# Altium integrated library Analog Devices Data Converters Digital-to-Analog Converters.IntLib: 2231 symbols (part 113 of 181)
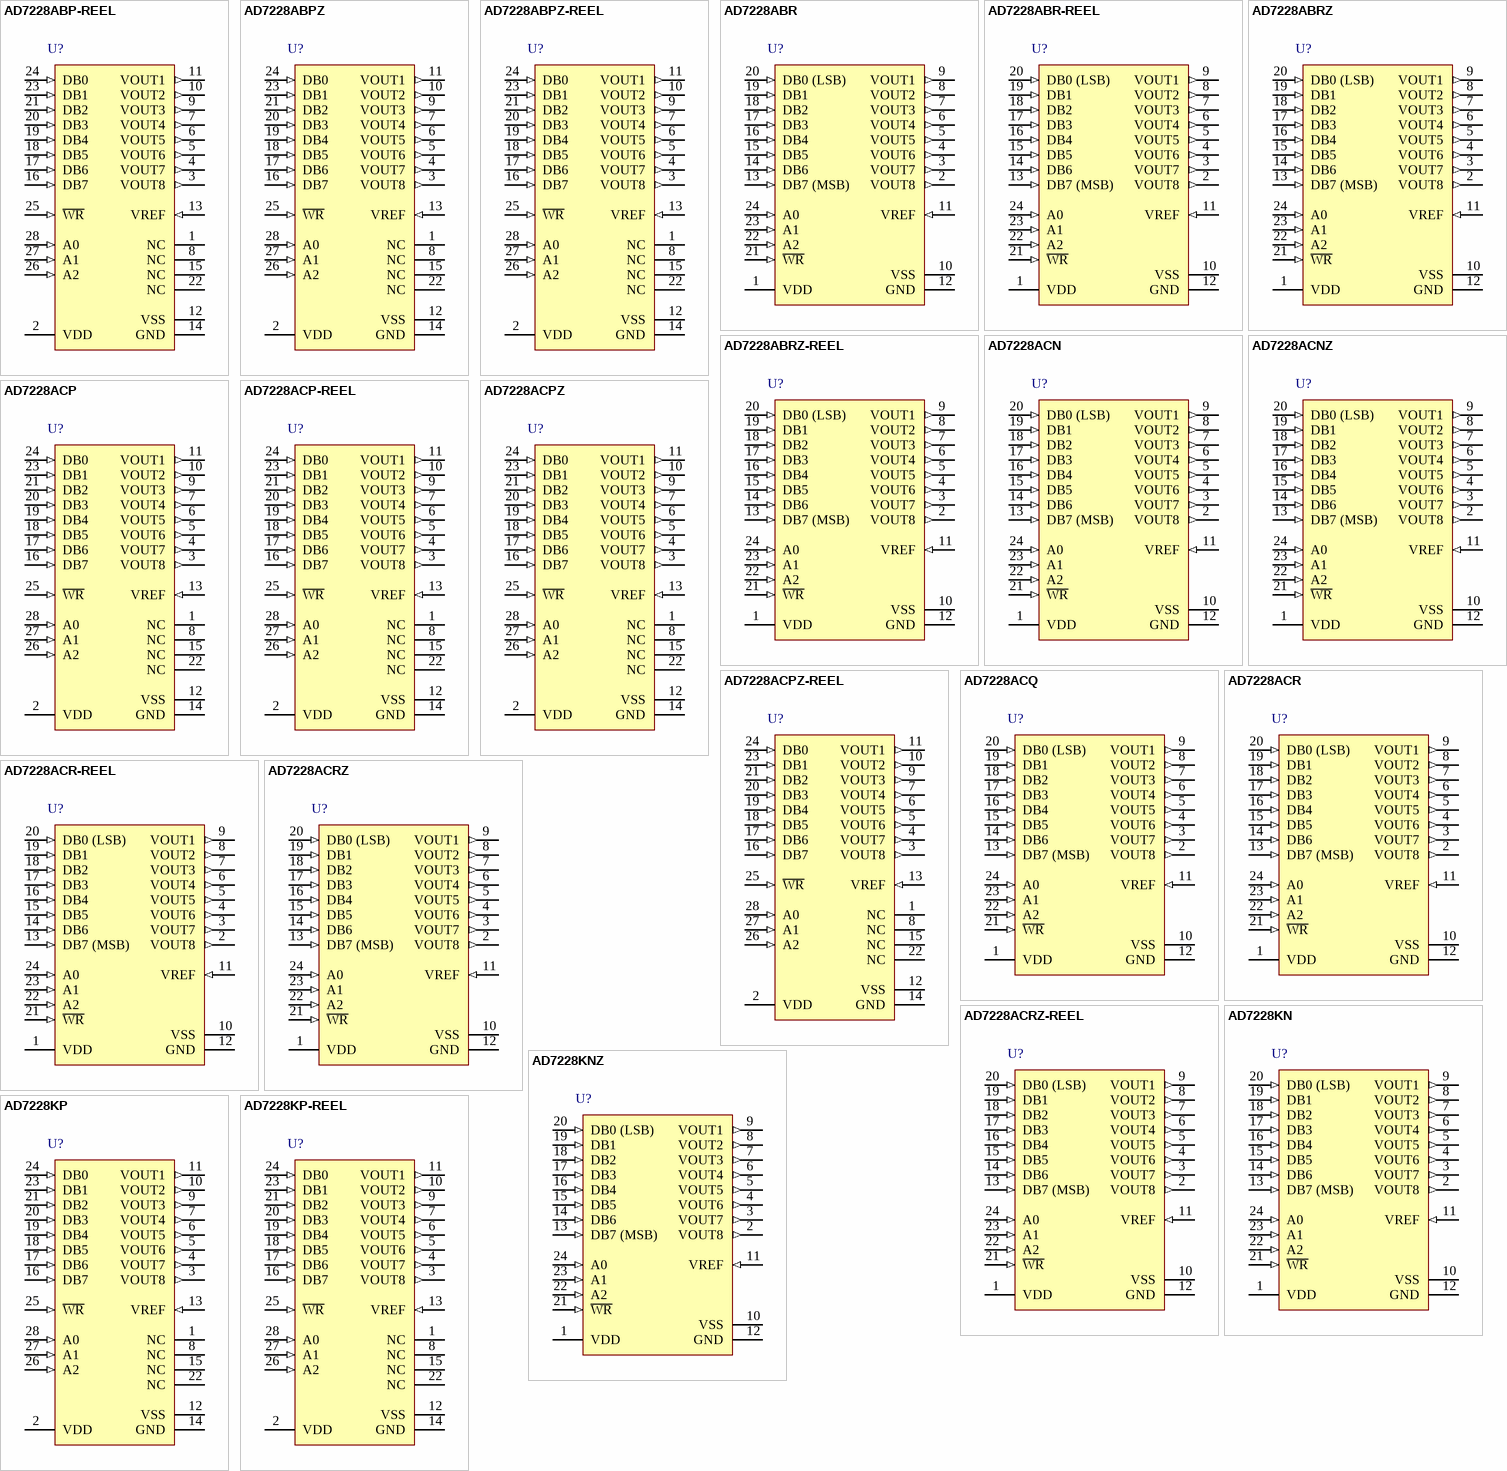
[diagram p226: symbols AD7228ABP-REEL to AD7228KP-REEL]

## AD7228ACR
designator U?
Octal 8-Bit LC2MOS Digital-to-Analog Converter, -40 to +85 degC, RW-24, Tube; Generic Part Number: AD7228; Manufacturer: Analog Devices; PartNumber: AD7228ACR; # DAC Outputs: 8; Max V+: 16.5V; Op Pwr Diss: 310mW; Settling Time: 5µs; Single Supply: Yes; DatasheetVersion: Rev.A; PackageVersion: 060706-A; PackageReference: RW-24; PackageDescription: 24-Lead Standard Small Outline Package [SOIC_W]; Supplier 1: Digi-Key; Supplier Part Number 1: AD7228ACR-ND; Supplier 2: Mouser; Supplier Part Number 2: 584-AD7228ACR; Packing: Tube; Resolution (Bits): 8; RoHS: N; Mounting Technology: Surface Mount; Code_JEDEC: MS-013-AD; ComponentLink1Description: Manufacturer URL; ComponentLink1URL: http://www.analog.com/en/index.html; ComponentLink2Description: Datasheet; ComponentLink2URL: http://www.analog.com/static/imported-files/data_sheets/AD7228.pdf; ComponentLink3Description: Package Specification; ComponentLink3URL: http://www.analog.com/static/imported-files/packages/33665150946139RW_24.pdf; ComponentLink4Description: Product URL; ComponentLink4URL: http://www.analog.com/en/digital-to-analog-converters/da-converters/ad7228/products/product.html
footprint RW-24_N (SOIC, 24-Leads, Body 15.4x7.5mm, Pitch 1.27mm, IPC Medium Density)
footprint RW-24_L (SOIC, 24-Leads, Body 15.4x7.5mm, Pitch 1.27mm, IPC High Density)
footprint RW-24_M (SOIC, 24-Leads, Body 15.4x7.5mm, Pitch 1.27mm, IPC Low Density)
pins: 1 VDD (power), 2 VOUT8 (out), 3 VOUT7 (out), 4 VOUT6 (out), 5 VOUT5 (out), 6 VOUT4 (out), 7 VOUT3 (out), 8 VOUT2 (out), 9 VOUT1 (out), 10 VSS (power), 11 VREF (in), 12 GND (power), 13 DB7 (MSB) (in), 14 DB6 (in), 15 DB5 (in), 16 DB4 (in), 17 DB3 (in), 18 DB2 (in), 19 DB1 (in), 20 DB0 (LSB) (in), 21 ~{WR} (in), 22 A2 (in), 23 A1 (in), 24 A0 (in)

## AD7228ACR-REEL
designator U?
Octal 8-Bit LC2MOS Digital-to-Analog Converter, -40 to +85 degC, RW-24, Reel; Generic Part Number: AD7228; Manufacturer: Analog Devices; PartNumber: AD7228ACR-REEL; # DAC Outputs: 8; Max V+: 16.5V; Op Pwr Diss: 310mW; Settling Time: 5µs; Single Supply: Yes; DatasheetVersion: Rev.A; PackageVersion: 060706-A; PackageReference: RW-24; PackageDescription: 24-Lead Standard Small Outline Package [SOIC_W]; Supplier 1: Digi-Key; Supplier Part Number 1: AD7228ACR-REEL-ND; Supplier 2: Mouser; Supplier Part Number 2: 584-AD7228ACR-R; Packing: Reel; Resolution (Bits): 8; RoHS: N; Mounting Technology: Surface Mount; Code_JEDEC: MS-013-AD; ComponentLink1Description: Manufacturer URL; ComponentLink1URL: http://www.analog.com/en/index.html; ComponentLink2Description: Datasheet; ComponentLink2URL: http://www.analog.com/static/imported-files/data_sheets/AD7228.pdf; ComponentLink3Description: Package Specification; ComponentLink3URL: http://www.analog.com/static/imported-files/packages/33665150946139RW_24.pdf; ComponentLink4Description: Product URL; ComponentLink4URL: http://www.analog.com/en/digital-to-analog-converters/da-converters/ad7228/products/product.html
footprint RW-24_N (SOIC, 24-Leads, Body 15.4x7.5mm, Pitch 1.27mm, IPC Medium Density)
footprint RW-24_L (SOIC, 24-Leads, Body 15.4x7.5mm, Pitch 1.27mm, IPC High Density)
footprint RW-24_M (SOIC, 24-Leads, Body 15.4x7.5mm, Pitch 1.27mm, IPC Low Density)
pins: 1 VDD (power), 2 VOUT8 (out), 3 VOUT7 (out), 4 VOUT6 (out), 5 VOUT5 (out), 6 VOUT4 (out), 7 VOUT3 (out), 8 VOUT2 (out), 9 VOUT1 (out), 10 VSS (power), 11 VREF (in), 12 GND (power), 13 DB7 (MSB) (in), 14 DB6 (in), 15 DB5 (in), 16 DB4 (in), 17 DB3 (in), 18 DB2 (in), 19 DB1 (in), 20 DB0 (LSB) (in), 21 ~{WR} (in), 22 A2 (in), 23 A1 (in), 24 A0 (in)

## AD7228ACRZ
designator U?
Octal 8-Bit LC2MOS Digital-to-Analog Converter, -40 to +85 degC, RW-24, Pb-Free, Tube; Generic Part Number: AD7228; Manufacturer: Analog Devices; PartNumber: AD7228ACRZ; # DAC Outputs: 8; Max V+: 16.5V; Op Pwr Diss: 310mW; Settling Time: 5µs; Single Supply: Yes; DatasheetVersion: Rev.A; PackageVersion: 060706-A; PackageReference: RW-24; PackageDescription: 24-Lead Standard Small Outline Package [SOIC_W]; Supplier 1: Digi-Key; Supplier Part Number 1: AD7228ACRZ-ND; Supplier 2: Farnell; Supplier Part Number 2: 2313474; Supplier 3: Newark; Supplier Part Number 3: 59K4587; Supplier 4: Mouser; Supplier Part Number 4: 584-AD7228ACRZ; Packing: Tube; Resolution (Bits): 8; RoHS: Y; Mounting Technology: Surface Mount; Code_JEDEC: MS-013-AD; ComponentLink1Description: Manufacturer URL; ComponentLink1URL: http://www.analog.com/en/index.html; ComponentLink2Description: Datasheet; ComponentLink2URL: http://www.analog.com/static/imported-files/data_sheets/AD7228.pdf; ComponentLink3Description: Package Specification; ComponentLink3URL: http://www.analog.com/static/imported-files/packages/33665150946139RW_24.pdf; ComponentLink4Description: Product URL; ComponentLink4URL: http://www.analog.com/en/digital-to-analog-converters/da-converters/ad7228/products/product.html
footprint RW-24_N (SOIC, 24-Leads, Body 15.4x7.5mm, Pitch 1.27mm, IPC Medium Density)
footprint RW-24_L (SOIC, 24-Leads, Body 15.4x7.5mm, Pitch 1.27mm, IPC High Density)
footprint RW-24_M (SOIC, 24-Leads, Body 15.4x7.5mm, Pitch 1.27mm, IPC Low Density)
pins: 1 VDD (power), 2 VOUT8 (out), 3 VOUT7 (out), 4 VOUT6 (out), 5 VOUT5 (out), 6 VOUT4 (out), 7 VOUT3 (out), 8 VOUT2 (out), 9 VOUT1 (out), 10 VSS (power), 11 VREF (in), 12 GND (power), 13 DB7 (MSB) (in), 14 DB6 (in), 15 DB5 (in), 16 DB4 (in), 17 DB3 (in), 18 DB2 (in), 19 DB1 (in), 20 DB0 (LSB) (in), 21 ~{WR} (in), 22 A2 (in), 23 A1 (in), 24 A0 (in)

## AD7228ACRZ-REEL
designator U?
Octal 8-Bit LC2MOS Digital-to-Analog Converter, -40 to +85 degC, RW-24, Pb-Free, Reel; Generic Part Number: AD7228; Manufacturer: Analog Devices; PartNumber: AD7228ACRZ-REEL; # DAC Outputs: 8; Max V+: 16.5V; Op Pwr Diss: 310mW; Settling Time: 5µs; Single Supply: Yes; DatasheetVersion: Rev.A; PackageVersion: 060706-A; PackageReference: RW-24; PackageDescription: 24-Lead Standard Small Outline Package [SOIC_W]; Supplier 1: Digi-Key; Supplier Part Number 1: AD7228ACRZ-REEL-ND; Supplier 2: Newark; Supplier Part Number 2: 59K4588; Supplier 3: Mouser; Supplier Part Number 3: 584-AD7228ACRZ-R; Packing: Reel; Resolution (Bits): 8; RoHS: Y; Mounting Technology: Surface Mount; Code_JEDEC: MS-013-AD; ComponentLink1Description: Manufacturer URL; ComponentLink1URL: http://www.analog.com/en/index.html; ComponentLink2Description: Datasheet; ComponentLink2URL: http://www.analog.com/static/imported-files/data_sheets/AD7228.pdf; ComponentLink3Description: Package Specification; ComponentLink3URL: http://www.analog.com/static/imported-files/packages/33665150946139RW_24.pdf; ComponentLink4Description: Product URL; ComponentLink4URL: http://www.analog.com/en/digital-to-analog-converters/da-converters/ad7228/products/product.html
footprint RW-24_N (SOIC, 24-Leads, Body 15.4x7.5mm, Pitch 1.27mm, IPC Medium Density)
footprint RW-24_L (SOIC, 24-Leads, Body 15.4x7.5mm, Pitch 1.27mm, IPC High Density)
footprint RW-24_M (SOIC, 24-Leads, Body 15.4x7.5mm, Pitch 1.27mm, IPC Low Density)
pins: 1 VDD (power), 2 VOUT8 (out), 3 VOUT7 (out), 4 VOUT6 (out), 5 VOUT5 (out), 6 VOUT4 (out), 7 VOUT3 (out), 8 VOUT2 (out), 9 VOUT1 (out), 10 VSS (power), 11 VREF (in), 12 GND (power), 13 DB7 (MSB) (in), 14 DB6 (in), 15 DB5 (in), 16 DB4 (in), 17 DB3 (in), 18 DB2 (in), 19 DB1 (in), 20 DB0 (LSB) (in), 21 ~{WR} (in), 22 A2 (in), 23 A1 (in), 24 A0 (in)

## AD7228KN
designator U?
Octal 8-Bit LC2MOS Digital-to-Analog Converter, 0 to +70 degC, N-24-1, Tube; Generic Part Number: AD7228; Manufacturer: Analog Devices; PartNumber: AD7228KN; # DAC Outputs: 8; Max V+: 16.5V; Op Pwr Diss: 310mW; Settling Time: 5µs; Single Supply: Yes; DatasheetVersion: Rev.A; PackageVersion: 071006-A; PackageReference: N-24-1; PackageDescription: 24-Lead Plastic Dual In-Line Package [PDIP] Narrow Body; Supplier 1: Digi-Key; Supplier Part Number 1: AD7228KN-ND; Supplier 2: Mouser; Supplier Part Number 2: 584-AD7228KN; Packing: Tube; Resolution (Bits): 8; RoHS: N; Mounting Technology: Through Hole; Code_JEDEC: MS-001; ComponentLink1Description: Manufacturer URL; ComponentLink1URL: http://www.analog.com/en/index.html; ComponentLink2Description: Datasheet; ComponentLink2URL: http://www.analog.com/static/imported-files/data_sheets/AD7228.pdf; ComponentLink3Description: Package Specification; ComponentLink3URL: http://www.analog.com/static/imported-files/packages/50726455539629N_24_1.pdf; ComponentLink4Description: Product URL; ComponentLink4URL: http://www.analog.com/en/digital-to-analog-converters/da-converters/ad7228/products/product.html
footprint N-24-1 (DIP, 24-Leads, Row Spacing 7.62mm, Pitch 2.54mm, Body 31.9x6.6mm)
pins: 1 VDD (power), 2 VOUT8 (out), 3 VOUT7 (out), 4 VOUT6 (out), 5 VOUT5 (out), 6 VOUT4 (out), 7 VOUT3 (out), 8 VOUT2 (out), 9 VOUT1 (out), 10 VSS (power), 11 VREF (in), 12 GND (power), 13 DB7 (MSB) (in), 14 DB6 (in), 15 DB5 (in), 16 DB4 (in), 17 DB3 (in), 18 DB2 (in), 19 DB1 (in), 20 DB0 (LSB) (in), 21 ~{WR} (in), 22 A2 (in), 23 A1 (in), 24 A0 (in)

## AD7228KNZ
designator U?
Octal 8-Bit LC2MOS Digital-to-Analog Converter, 0 to +70 degC, N-24-1, Pb-Free, Tube; Generic Part Number: AD7228; Manufacturer: Analog Devices; PartNumber: AD7228KNZ; # DAC Outputs: 8; Max V+: 16.5V; Op Pwr Diss: 310mW; Settling Time: 5µs; Single Supply: Yes; DatasheetVersion: Rev.A; PackageVersion: 071006-A; PackageReference: N-24-1; PackageDescription: 24-Lead Plastic Dual In-Line Package [PDIP] Narrow Body; Supplier 1: Digi-Key; Supplier Part Number 1: AD7228KNZ-ND; Supplier 2: Farnell; Supplier Part Number 2: 1079364; Supplier 3: Newark; Supplier Part Number 3: 19M1188; Supplier 4: Mouser; Supplier Part Number 4: 584-AD7228KNZ; Packing: Tube; Resolution (Bits): 8; RoHS: Y; Mounting Technology: Through Hole; Code_JEDEC: MS-001; ComponentLink1Description: Manufacturer URL; ComponentLink1URL: http://www.analog.com/en/index.html; ComponentLink2Description: Datasheet; ComponentLink2URL: http://www.analog.com/static/imported-files/data_sheets/AD7228.pdf; ComponentLink3Description: Package Specification; ComponentLink3URL: http://www.analog.com/static/imported-files/packages/50726455539629N_24_1.pdf; ComponentLink4Description: Product URL; ComponentLink4URL: http://www.analog.com/en/digital-to-analog-converters/da-converters/ad7228/products/product.html
footprint N-24-1 (DIP, 24-Leads, Row Spacing 7.62mm, Pitch 2.54mm, Body 31.9x6.6mm)
pins: 1 VDD (power), 2 VOUT8 (out), 3 VOUT7 (out), 4 VOUT6 (out), 5 VOUT5 (out), 6 VOUT4 (out), 7 VOUT3 (out), 8 VOUT2 (out), 9 VOUT1 (out), 10 VSS (power), 11 VREF (in), 12 GND (power), 13 DB7 (MSB) (in), 14 DB6 (in), 15 DB5 (in), 16 DB4 (in), 17 DB3 (in), 18 DB2 (in), 19 DB1 (in), 20 DB0 (LSB) (in), 21 ~{WR} (in), 22 A2 (in), 23 A1 (in), 24 A0 (in)

## AD7228KP
designator U?
Octal 8-Bit LC2MOS Digital-to-Analog Converter, 0 to +70 degC, P-28, Tube; Generic Part Number: AD7228; Manufacturer: Analog Devices; PartNumber: AD7228KP; # DAC Outputs: 8; Max V+: 16.5V; Op Pwr Diss: 310mW; Settling Time: 5µs; Single Supply: Yes; DatasheetVersion: Rev.A; PackageVersion: 042508-A; PackageReference: P-28; PackageDescription: 28-Lead Plastic Leaded Chip Carrier [PLCC]; Supplier 1: Digi-Key; Supplier Part Number 1: AD7228KP-ND; Supplier 2: Mouser; Supplier Part Number 2: 584-AD7228KP; Packing: Tube; Resolution (Bits): 8; RoHS: N; Mounting Technology: Surface Mount; Code_JEDEC: MO-047-AB; ComponentLink1Description: Manufacturer URL; ComponentLink1URL: http://www.analog.com/en/index.html; ComponentLink2Description: Datasheet; ComponentLink2URL: http://www.analog.com/static/imported-files/data_sheets/AD7228.pdf; ComponentLink3Description: Package Specification; ComponentLink3URL: http://www.analog.com/static/imported-files/packages/PKG_PDF/PLCC(P)/P_28.pdf; ComponentLink4Description: Product URL; ComponentLink4URL: http://www.analog.com/en/digital-to-analog-converters/da-converters/ad7228/products/product.html
footprint P-28_N (Leaded Chip Carrier, 28-Leads, Body 11.5x11.5mm, Pitch 1.27mm, IPC Medium Density)
footprint P-28_L (Leaded Chip Carrier, 28-Leads, Body 11.5x11.5mm, Pitch 1.27mm, IPC High Density)
footprint P-28_M (Leaded Chip Carrier, 28-Leads, Body 11.5x11.5mm, Pitch 1.27mm, IPC Low Density)
pins: 1 NC, 2 VDD (power), 3 VOUT8 (out), 4 VOUT7 (out), 5 VOUT6 (out), 6 VOUT5 (out), 7 VOUT4 (out), 8 NC, 9 VOUT3 (out), 10 VOUT2 (out), 11 VOUT1 (out), 12 VSS (power), 13 VREF (in), 14 GND (power), 15 NC, 16 DB7 (in), 17 DB6 (in), 18 DB5 (in), 19 DB4 (in), 20 DB3 (in), 21 DB2 (in), 22 NC, 23 DB1 (in), 24 DB0 (in), 25 ~{WR} (in), 26 A2 (in), 27 A1 (in), 28 A0 (in)

## AD7228KP-REEL
designator U?
Octal 8-Bit LC2MOS Digital-to-Analog Converter, 0 to +70 degC, P-28, Reel; Generic Part Number: AD7228; Manufacturer: Analog Devices; PartNumber: AD7228KP-REEL; # DAC Outputs: 8; Max V+: 16.5V; Op Pwr Diss: 310mW; Settling Time: 5µs; Single Supply: Yes; DatasheetVersion: Rev.A; PackageVersion: 042508-A; PackageReference: P-28; PackageDescription: 28-Lead Plastic Leaded Chip Carrier [PLCC]; Supplier 1: Mouser; Supplier Part Number 1: N/A; Packing: Reel; Resolution (Bits): 8; RoHS: N; Mounting Technology: Surface Mount; Code_JEDEC: MO-047-AB; ComponentLink1Description: Manufacturer URL; ComponentLink1URL: http://www.analog.com/en/index.html; ComponentLink2Description: Datasheet; ComponentLink2URL: http://www.analog.com/static/imported-files/data_sheets/AD7228.pdf; ComponentLink3Description: Package Specification; ComponentLink3URL: http://www.analog.com/static/imported-files/packages/PKG_PDF/PLCC(P)/P_28.pdf; ComponentLink4Description: Product URL; ComponentLink4URL: http://www.analog.com/en/digital-to-analog-converters/da-converters/ad7228/products/product.html
footprint P-28_N (Leaded Chip Carrier, 28-Leads, Body 11.5x11.5mm, Pitch 1.27mm, IPC Medium Density)
footprint P-28_L (Leaded Chip Carrier, 28-Leads, Body 11.5x11.5mm, Pitch 1.27mm, IPC High Density)
footprint P-28_M (Leaded Chip Carrier, 28-Leads, Body 11.5x11.5mm, Pitch 1.27mm, IPC Low Density)
pins: 1 NC, 2 VDD (power), 3 VOUT8 (out), 4 VOUT7 (out), 5 VOUT6 (out), 6 VOUT5 (out), 7 VOUT4 (out), 8 NC, 9 VOUT3 (out), 10 VOUT2 (out), 11 VOUT1 (out), 12 VSS (power), 13 VREF (in), 14 GND (power), 15 NC, 16 DB7 (in), 17 DB6 (in), 18 DB5 (in), 19 DB4 (in), 20 DB3 (in), 21 DB2 (in), 22 NC, 23 DB1 (in), 24 DB0 (in), 25 ~{WR} (in), 26 A2 (in), 27 A1 (in), 28 A0 (in)

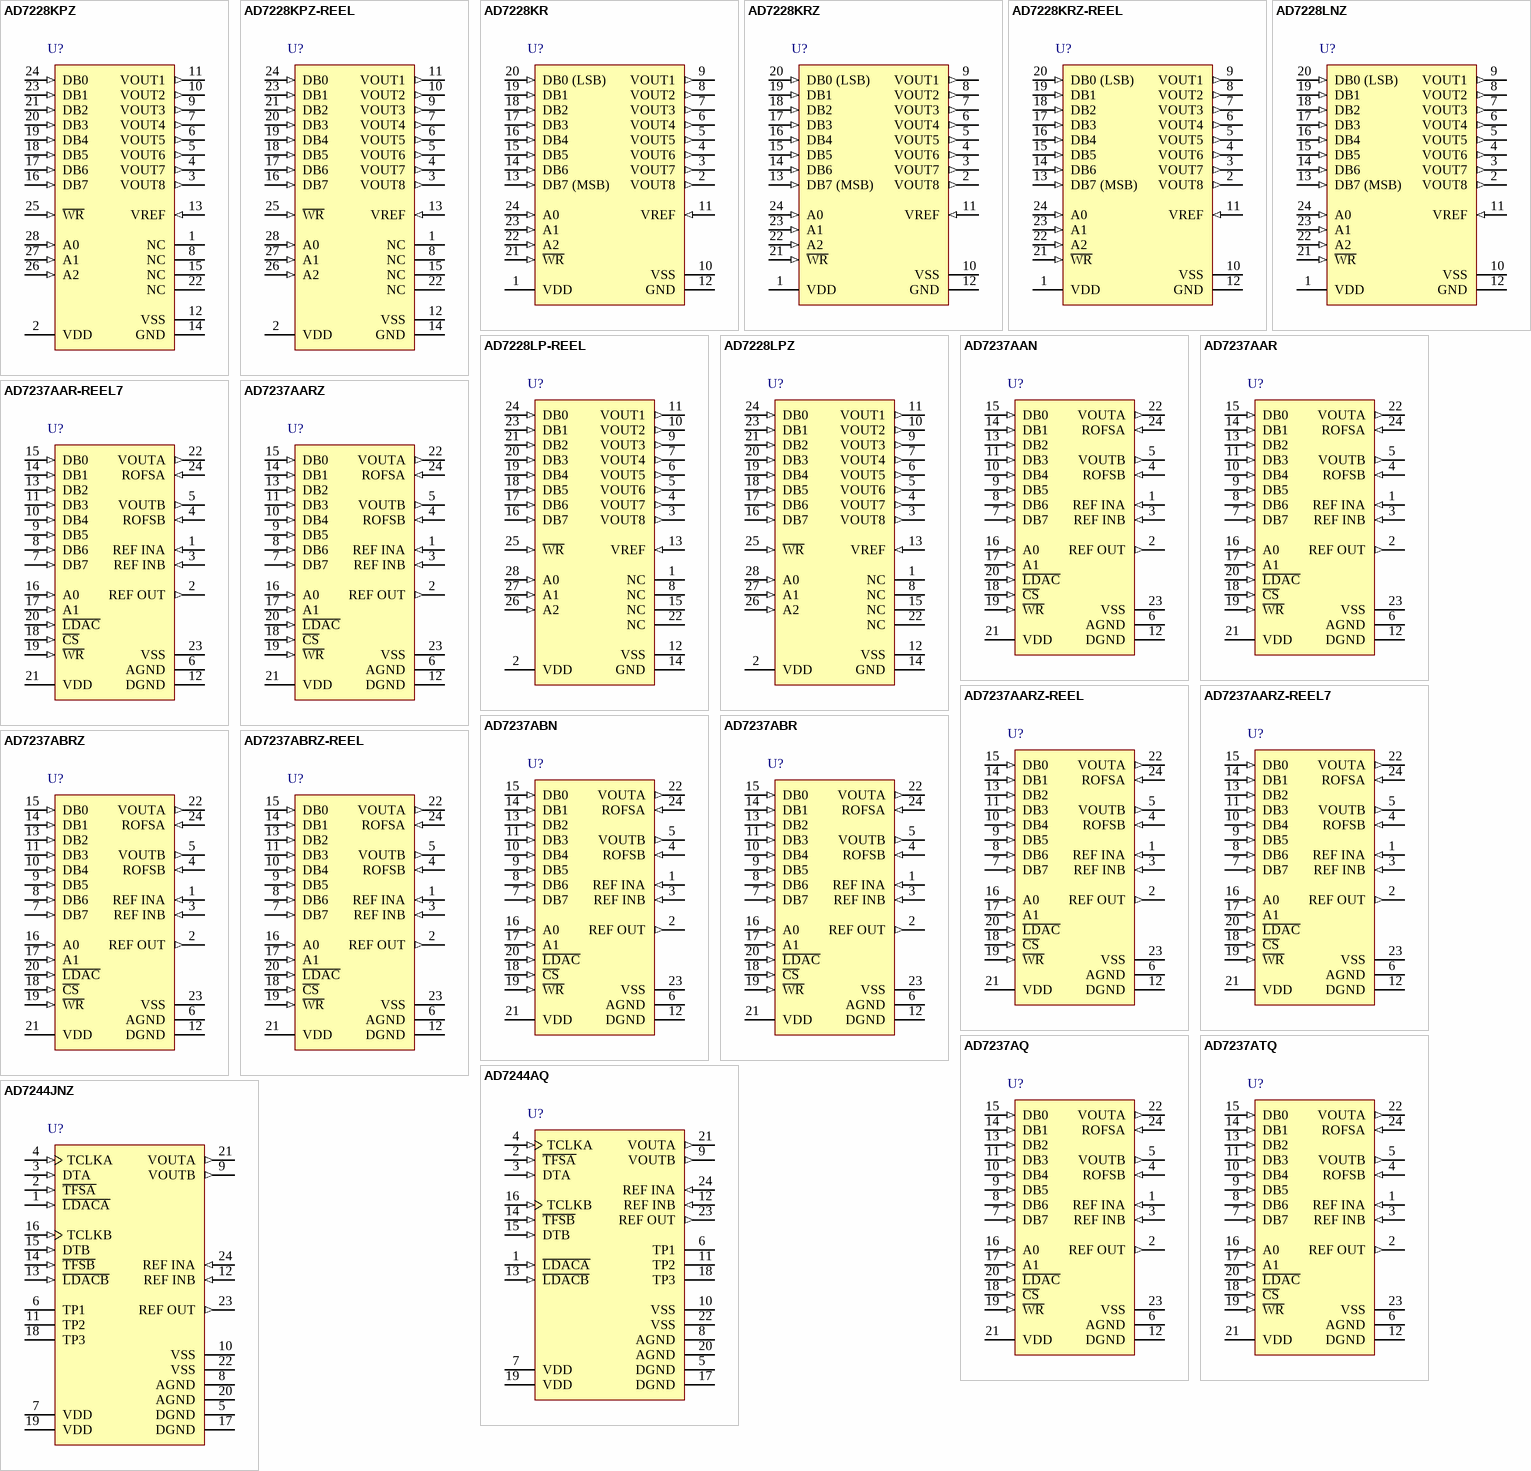
[diagram p60: symbols AD7228KPZ to AD7244JNZ]

## AD7228KPZ
designator U?
Octal 8-Bit LC2MOS Digital-to-Analog Converter, 0 to +70 degC, P-28, Pb-Free, Tube; Generic Part Number: AD7228; Manufacturer: Analog Devices; PartNumber: AD7228KPZ; # DAC Outputs: 8; Max V+: 16.5V; Op Pwr Diss: 310mW; Settling Time: 5µs; Single Supply: Yes; DatasheetVersion: Rev.A; PackageVersion: 042508-A; PackageReference: P-28; PackageDescription: 28-Lead Plastic Leaded Chip Carrier [PLCC]; Supplier 1: Digi-Key; Supplier Part Number 1: AD7228KPZ-ND; Supplier 2: Farnell; Supplier Part Number 2: 1438389; Supplier 3: Mouser; Supplier Part Number 3: 584-AD7228KPZ; Packing: Tube; Resolution (Bits): 8; RoHS: Y; Mounting Technology: Surface Mount; Code_JEDEC: MO-047-AB; ComponentLink1Description: Manufacturer URL; ComponentLink1URL: http://www.analog.com/en/index.html; ComponentLink2Description: Datasheet; ComponentLink2URL: http://www.analog.com/static/imported-files/data_sheets/AD7228.pdf; ComponentLink3Description: Package Specification; ComponentLink3URL: http://www.analog.com/static/imported-files/packages/PKG_PDF/PLCC(P)/P_28.pdf; ComponentLink4Description: Product URL; ComponentLink4URL: http://www.analog.com/en/digital-to-analog-converters/da-converters/ad7228/products/product.html
footprint P-28_N (Leaded Chip Carrier, 28-Leads, Body 11.5x11.5mm, Pitch 1.27mm, IPC Medium Density)
footprint P-28_L (Leaded Chip Carrier, 28-Leads, Body 11.5x11.5mm, Pitch 1.27mm, IPC High Density)
footprint P-28_M (Leaded Chip Carrier, 28-Leads, Body 11.5x11.5mm, Pitch 1.27mm, IPC Low Density)
pins: 1 NC, 2 VDD (power), 3 VOUT8 (out), 4 VOUT7 (out), 5 VOUT6 (out), 6 VOUT5 (out), 7 VOUT4 (out), 8 NC, 9 VOUT3 (out), 10 VOUT2 (out), 11 VOUT1 (out), 12 VSS (power), 13 VREF (in), 14 GND (power), 15 NC, 16 DB7 (in), 17 DB6 (in), 18 DB5 (in), 19 DB4 (in), 20 DB3 (in), 21 DB2 (in), 22 NC, 23 DB1 (in), 24 DB0 (in), 25 ~{WR} (in), 26 A2 (in), 27 A1 (in), 28 A0 (in)

## AD7228KPZ-REEL
designator U?
Octal 8-Bit LC2MOS Digital-to-Analog Converter, 0 to +70 degC, P-28, Pb-Free, Reel; Generic Part Number: AD7228; Manufacturer: Analog Devices; PartNumber: AD7228KPZ-REEL; # DAC Outputs: 8; Max V+: 16.5V; Op Pwr Diss: 310mW; Settling Time: 5µs; Single Supply: Yes; DatasheetVersion: Rev.A; PackageVersion: 042508-A; PackageReference: P-28; PackageDescription: 28-Lead Plastic Leaded Chip Carrier [PLCC]; Supplier 1: Digi-Key; Supplier Part Number 1: AD7228KPZ-REEL-ND; Supplier 2: Mouser; Supplier Part Number 2: 584-AD7228KPZ-R; Packing: Reel; Resolution (Bits): 8; RoHS: Y; Mounting Technology: Surface Mount; Code_JEDEC: MO-047-AB; ComponentLink1Description: Manufacturer URL; ComponentLink1URL: http://www.analog.com/en/index.html; ComponentLink2Description: Datasheet; ComponentLink2URL: http://www.analog.com/static/imported-files/data_sheets/AD7228.pdf; ComponentLink3Description: Package Specification; ComponentLink3URL: http://www.analog.com/static/imported-files/packages/PKG_PDF/PLCC(P)/P_28.pdf; ComponentLink4Description: Product URL; ComponentLink4URL: http://www.analog.com/en/digital-to-analog-converters/da-converters/ad7228/products/product.html
footprint P-28_N (Leaded Chip Carrier, 28-Leads, Body 11.5x11.5mm, Pitch 1.27mm, IPC Medium Density)
footprint P-28_L (Leaded Chip Carrier, 28-Leads, Body 11.5x11.5mm, Pitch 1.27mm, IPC High Density)
footprint P-28_M (Leaded Chip Carrier, 28-Leads, Body 11.5x11.5mm, Pitch 1.27mm, IPC Low Density)
pins: 1 NC, 2 VDD (power), 3 VOUT8 (out), 4 VOUT7 (out), 5 VOUT6 (out), 6 VOUT5 (out), 7 VOUT4 (out), 8 NC, 9 VOUT3 (out), 10 VOUT2 (out), 11 VOUT1 (out), 12 VSS (power), 13 VREF (in), 14 GND (power), 15 NC, 16 DB7 (in), 17 DB6 (in), 18 DB5 (in), 19 DB4 (in), 20 DB3 (in), 21 DB2 (in), 22 NC, 23 DB1 (in), 24 DB0 (in), 25 ~{WR} (in), 26 A2 (in), 27 A1 (in), 28 A0 (in)

## AD7228KR
designator U?
Octal 8-Bit LC2MOS Digital-to-Analog Converter, 0 to +70 degC, RW-24, Tube; Generic Part Number: AD7228; Manufacturer: Analog Devices; PartNumber: AD7228KR; # DAC Outputs: 8; Max V+: 16.5V; Op Pwr Diss: 310mW; Settling Time: 5µs; Single Supply: Yes; DatasheetVersion: Rev.A; PackageVersion: 060706-A; PackageReference: RW-24; PackageDescription: 24-Lead Standard Small Outline Package [SOIC_W]; Supplier 1: Digi-Key; Supplier Part Number 1: AD7228KR-ND; Supplier 2: Mouser; Supplier Part Number 2: 584-AD7228KR; Packing: Tube; Resolution (Bits): 8; RoHS: N; Mounting Technology: Surface Mount; Code_JEDEC: MS-013-AD; ComponentLink1Description: Manufacturer URL; ComponentLink1URL: http://www.analog.com/en/index.html; ComponentLink2Description: Datasheet; ComponentLink2URL: http://www.analog.com/static/imported-files/data_sheets/AD7228.pdf; ComponentLink3Description: Package Specification; ComponentLink3URL: http://www.analog.com/static/imported-files/packages/33665150946139RW_24.pdf; ComponentLink4Description: Product URL; ComponentLink4URL: http://www.analog.com/en/digital-to-analog-converters/da-converters/ad7228/products/product.html
footprint RW-24_N (SOIC, 24-Leads, Body 15.4x7.5mm, Pitch 1.27mm, IPC Medium Density)
footprint RW-24_L (SOIC, 24-Leads, Body 15.4x7.5mm, Pitch 1.27mm, IPC High Density)
footprint RW-24_M (SOIC, 24-Leads, Body 15.4x7.5mm, Pitch 1.27mm, IPC Low Density)
pins: 1 VDD (power), 2 VOUT8 (out), 3 VOUT7 (out), 4 VOUT6 (out), 5 VOUT5 (out), 6 VOUT4 (out), 7 VOUT3 (out), 8 VOUT2 (out), 9 VOUT1 (out), 10 VSS (power), 11 VREF (in), 12 GND (power), 13 DB7 (MSB) (in), 14 DB6 (in), 15 DB5 (in), 16 DB4 (in), 17 DB3 (in), 18 DB2 (in), 19 DB1 (in), 20 DB0 (LSB) (in), 21 ~{WR} (in), 22 A2 (in), 23 A1 (in), 24 A0 (in)

## AD7228KRZ
designator U?
Octal 8-Bit LC2MOS Digital-to-Analog Converter, 0 to +70 degC, RW-24, Pb-Free, Tube; Generic Part Number: AD7228; Manufacturer: Analog Devices; PartNumber: AD7228KRZ; # DAC Outputs: 8; Max V+: 16.5V; Op Pwr Diss: 310mW; Settling Time: 5µs; Single Supply: Yes; DatasheetVersion: Rev.A; PackageVersion: 060706-A; PackageReference: RW-24; PackageDescription: 24-Lead Standard Small Outline Package [SOIC_W]; Supplier 1: Digi-Key; Supplier Part Number 1: AD7228KRZ-ND; Supplier 2: Mouser; Supplier Part Number 2: 584-AD7228KRZ; Packing: Tube; Resolution (Bits): 8; RoHS: Y; Mounting Technology: Surface Mount; Code_JEDEC: MS-013-AD; ComponentLink1Description: Manufacturer URL; ComponentLink1URL: http://www.analog.com/en/index.html; ComponentLink2Description: Datasheet; ComponentLink2URL: http://www.analog.com/static/imported-files/data_sheets/AD7228.pdf; ComponentLink3Description: Package Specification; ComponentLink3URL: http://www.analog.com/static/imported-files/packages/33665150946139RW_24.pdf; ComponentLink4Description: Product URL; ComponentLink4URL: http://www.analog.com/en/digital-to-analog-converters/da-converters/ad7228/products/product.html
footprint RW-24_N (SOIC, 24-Leads, Body 15.4x7.5mm, Pitch 1.27mm, IPC Medium Density)
footprint RW-24_L (SOIC, 24-Leads, Body 15.4x7.5mm, Pitch 1.27mm, IPC High Density)
footprint RW-24_M (SOIC, 24-Leads, Body 15.4x7.5mm, Pitch 1.27mm, IPC Low Density)
pins: 1 VDD (power), 2 VOUT8 (out), 3 VOUT7 (out), 4 VOUT6 (out), 5 VOUT5 (out), 6 VOUT4 (out), 7 VOUT3 (out), 8 VOUT2 (out), 9 VOUT1 (out), 10 VSS (power), 11 VREF (in), 12 GND (power), 13 DB7 (MSB) (in), 14 DB6 (in), 15 DB5 (in), 16 DB4 (in), 17 DB3 (in), 18 DB2 (in), 19 DB1 (in), 20 DB0 (LSB) (in), 21 ~{WR} (in), 22 A2 (in), 23 A1 (in), 24 A0 (in)

## AD7228KRZ-REEL
designator U?
Octal 8-Bit LC2MOS Digital-to-Analog Converter, 0 to +70 degC, RW-24, Pb-Free, Reel; Generic Part Number: AD7228; Manufacturer: Analog Devices; PartNumber: AD7228KRZ-REEL; # DAC Outputs: 8; Max V+: 16.5V; Op Pwr Diss: 310mW; Settling Time: 5µs; Single Supply: Yes; DatasheetVersion: Rev.A; PackageVersion: 060706-A; PackageReference: RW-24; PackageDescription: 24-Lead Standard Small Outline Package [SOIC_W]; Supplier 1: Digi-Key; Supplier Part Number 1: AD7228KRZ-REEL-ND; Supplier 2: Mouser; Supplier Part Number 2: 584-AD7228KRZ-R; Packing: Reel; Resolution (Bits): 8; RoHS: Y; Mounting Technology: Surface Mount; Code_JEDEC: MS-013-AD; ComponentLink1Description: Manufacturer URL; ComponentLink1URL: http://www.analog.com/en/index.html; ComponentLink2Description: Datasheet; ComponentLink2URL: http://www.analog.com/static/imported-files/data_sheets/AD7228.pdf; ComponentLink3Description: Package Specification; ComponentLink3URL: http://www.analog.com/static/imported-files/packages/33665150946139RW_24.pdf; ComponentLink4Description: Product URL; ComponentLink4URL: http://www.analog.com/en/digital-to-analog-converters/da-converters/ad7228/products/product.html
footprint RW-24_N (SOIC, 24-Leads, Body 15.4x7.5mm, Pitch 1.27mm, IPC Medium Density)
footprint RW-24_L (SOIC, 24-Leads, Body 15.4x7.5mm, Pitch 1.27mm, IPC High Density)
footprint RW-24_M (SOIC, 24-Leads, Body 15.4x7.5mm, Pitch 1.27mm, IPC Low Density)
pins: 1 VDD (power), 2 VOUT8 (out), 3 VOUT7 (out), 4 VOUT6 (out), 5 VOUT5 (out), 6 VOUT4 (out), 7 VOUT3 (out), 8 VOUT2 (out), 9 VOUT1 (out), 10 VSS (power), 11 VREF (in), 12 GND (power), 13 DB7 (MSB) (in), 14 DB6 (in), 15 DB5 (in), 16 DB4 (in), 17 DB3 (in), 18 DB2 (in), 19 DB1 (in), 20 DB0 (LSB) (in), 21 ~{WR} (in), 22 A2 (in), 23 A1 (in), 24 A0 (in)

## AD7228LNZ
designator U?
Octal 8-Bit LC2MOS Digital-to-Analog Converter, 0 to +70 degC, N-24-1, Pb-Free, Tube; Generic Part Number: AD7228; Manufacturer: Analog Devices; PartNumber: AD7228LNZ; # DAC Outputs: 8; Max V+: 16.5V; Op Pwr Diss: 310mW; Settling Time: 5µs; Single Supply: Yes; DatasheetVersion: Rev.A; PackageVersion: 071006-A; PackageReference: N-24-1; PackageDescription: 24-Lead Plastic Dual In-Line Package [PDIP] Narrow Body; Supplier 1: Digi-Key; Supplier Part Number 1: AD7228LNZ-ND; Supplier 2: Farnell; Supplier Part Number 2: 1438390; Supplier 3: Newark; Supplier Part Number 3: 59K4592; Supplier 4: Mouser; Supplier Part Number 4: 584-AD7228LNZ; Packing: Tube; Resolution (Bits): 8; RoHS: Y; Mounting Technology: Through Hole; Code_JEDEC: MS-001; ComponentLink1Description: Manufacturer URL; ComponentLink1URL: http://www.analog.com/en/index.html; ComponentLink2Description: Datasheet; ComponentLink2URL: http://www.analog.com/static/imported-files/data_sheets/AD7228.pdf; ComponentLink3Description: Package Specification; ComponentLink3URL: http://www.analog.com/static/imported-files/packages/50726455539629N_24_1.pdf; ComponentLink4Description: Product URL; ComponentLink4URL: http://www.analog.com/en/digital-to-analog-converters/da-converters/ad7228/products/product.html
footprint N-24-1 (DIP, 24-Leads, Row Spacing 7.62mm, Pitch 2.54mm, Body 31.9x6.6mm)
pins: 1 VDD (power), 2 VOUT8 (out), 3 VOUT7 (out), 4 VOUT6 (out), 5 VOUT5 (out), 6 VOUT4 (out), 7 VOUT3 (out), 8 VOUT2 (out), 9 VOUT1 (out), 10 VSS (power), 11 VREF (in), 12 GND (power), 13 DB7 (MSB) (in), 14 DB6 (in), 15 DB5 (in), 16 DB4 (in), 17 DB3 (in), 18 DB2 (in), 19 DB1 (in), 20 DB0 (LSB) (in), 21 ~{WR} (in), 22 A2 (in), 23 A1 (in), 24 A0 (in)

## AD7228LP-REEL
designator U?
Octal 8-Bit LC2MOS Digital-to-Analog Converter, 0 to +70 degC, P-28, Reel; Generic Part Number: AD7228; Manufacturer: Analog Devices; PartNumber: AD7228LP-REEL; # DAC Outputs: 8; Max V+: 16.5V; Op Pwr Diss: 310mW; Settling Time: 5µs; Single Supply: Yes; DatasheetVersion: Rev.A; PackageVersion: 042508-A; PackageReference: P-28; PackageDescription: 28-Lead Plastic Leaded Chip Carrier [PLCC]; Supplier 1: Mouser; Supplier Part Number 1: N/A; Packing: Reel; Resolution (Bits): 8; RoHS: N; Mounting Technology: Surface Mount; Code_JEDEC: MO-047-AB; ComponentLink1Description: Manufacturer URL; ComponentLink1URL: http://www.analog.com/en/index.html; ComponentLink2Description: Datasheet; ComponentLink2URL: http://www.analog.com/static/imported-files/data_sheets/AD7228.pdf; ComponentLink3Description: Package Specification; ComponentLink3URL: http://www.analog.com/static/imported-files/packages/PKG_PDF/PLCC(P)/P_28.pdf; ComponentLink4Description: Product URL; ComponentLink4URL: http://www.analog.com/en/digital-to-analog-converters/da-converters/ad7228/products/product.html
footprint P-28_N (Leaded Chip Carrier, 28-Leads, Body 11.5x11.5mm, Pitch 1.27mm, IPC Medium Density)
footprint P-28_L (Leaded Chip Carrier, 28-Leads, Body 11.5x11.5mm, Pitch 1.27mm, IPC High Density)
footprint P-28_M (Leaded Chip Carrier, 28-Leads, Body 11.5x11.5mm, Pitch 1.27mm, IPC Low Density)
pins: 1 NC, 2 VDD (power), 3 VOUT8 (out), 4 VOUT7 (out), 5 VOUT6 (out), 6 VOUT5 (out), 7 VOUT4 (out), 8 NC, 9 VOUT3 (out), 10 VOUT2 (out), 11 VOUT1 (out), 12 VSS (power), 13 VREF (in), 14 GND (power), 15 NC, 16 DB7 (in), 17 DB6 (in), 18 DB5 (in), 19 DB4 (in), 20 DB3 (in), 21 DB2 (in), 22 NC, 23 DB1 (in), 24 DB0 (in), 25 ~{WR} (in), 26 A2 (in), 27 A1 (in), 28 A0 (in)

## AD7228LPZ
designator U?
Octal 8-Bit LC2MOS Digital-to-Analog Converter, 0 to +70 degC, P-28, Pb-Free, Tube; Generic Part Number: AD7228; Manufacturer: Analog Devices; PartNumber: AD7228LPZ; # DAC Outputs: 8; Max V+: 16.5V; Op Pwr Diss: 310mW; Settling Time: 5µs; Single Supply: Yes; DatasheetVersion: Rev.A; PackageVersion: 042508-A; PackageReference: P-28; PackageDescription: 28-Lead Plastic Leaded Chip Carrier [PLCC]; Supplier 1: Digi-Key; Supplier Part Number 1: AD7228LPZ-ND; Supplier 2: Mouser; Supplier Part Number 2: 584-AD7228LPZ; Packing: Tube; Resolution (Bits): 8; RoHS: Y; Mounting Technology: Surface Mount; Code_JEDEC: MO-047-AB; ComponentLink1Description: Manufacturer URL; ComponentLink1URL: http://www.analog.com/en/index.html; ComponentLink2Description: Datasheet; ComponentLink2URL: http://www.analog.com/static/imported-files/data_sheets/AD7228.pdf; ComponentLink3Description: Package Specification; ComponentLink3URL: http://www.analog.com/static/imported-files/packages/PKG_PDF/PLCC(P)/P_28.pdf; ComponentLink4Description: Product URL; ComponentLink4URL: http://www.analog.com/en/digital-to-analog-converters/da-converters/ad7228/products/product.html
footprint P-28_N (Leaded Chip Carrier, 28-Leads, Body 11.5x11.5mm, Pitch 1.27mm, IPC Medium Density)
footprint P-28_L (Leaded Chip Carrier, 28-Leads, Body 11.5x11.5mm, Pitch 1.27mm, IPC High Density)
footprint P-28_M (Leaded Chip Carrier, 28-Leads, Body 11.5x11.5mm, Pitch 1.27mm, IPC Low Density)
pins: 1 NC, 2 VDD (power), 3 VOUT8 (out), 4 VOUT7 (out), 5 VOUT6 (out), 6 VOUT5 (out), 7 VOUT4 (out), 8 NC, 9 VOUT3 (out), 10 VOUT2 (out), 11 VOUT1 (out), 12 VSS (power), 13 VREF (in), 14 GND (power), 15 NC, 16 DB7 (in), 17 DB6 (in), 18 DB5 (in), 19 DB4 (in), 20 DB3 (in), 21 DB2 (in), 22 NC, 23 DB1 (in), 24 DB0 (in), 25 ~{WR} (in), 26 A2 (in), 27 A1 (in), 28 A0 (in)

## AD7237AAN
designator U?
Dual 12-Bit LC2MOS DACPORT, -40 to +85 degC, N-24-1, Tube; Generic Part Number: AD7237A; Manufacturer: Analog Devices; PartNumber: AD7237AAN; # DAC Outputs: 2; Max V+: 16.5V; Op Pwr Diss: 300mW; Resolution (Bits): 12; Settling Time: 8µs; Single Supply: Yes; DatasheetVersion: Rev.A; PackageVersion: 071006-A; PackageReference: N-24-1; PackageDescription: 24-Lead Plastic Dual In-Line Package [PDIP] Narrow Body; Supplier 1: Digi-Key; Supplier Part Number 1: AD7237AAN-ND; Supplier 2: Newark; Supplier Part Number 2: 91F1829; Supplier 3: Mouser; Supplier Part Number 3: 584-AD7237AAN; Packing: Tube; RoHS: N; Mounting Technology: Through Hole; Code_JEDEC: MS-001; ComponentLink1Description: Manufacturer URL; ComponentLink1URL: http://www.analog.com/en/index.html; ComponentLink2Description: Datasheet; ComponentLink2URL: http://www.analog.com/static/imported-files/data_sheets/AD7237_7247.pdf; ComponentLink3Description: Package Specification; ComponentLink3URL: http://www.analog.com/static/imported-files/packages/50726455539629N_24_1.pdf; ComponentLink4Description: Product URL; ComponentLink4URL: http://www.analog.com/en/digital-to-analog-converters/da-converters/ad7237/products/product.html
footprint N-24-1 (DIP, 24-Leads, Row Spacing 7.62mm, Pitch 2.54mm, Body 31.9x6.6mm)
pins: 1 REF INA (in) "Voltage Reference Input for DAC A.The reference voltage for DAC A is applied to this pin.It is internally buffered before being applied to the DAC.The nominal reference voltage for correct operation of the AD7237 is 5 V.", 2 REF OUT (out) "Voltage Reference Output.The internal 5 V analog reference is provided at this pin.To operate the part with internal reference,REF OUT should be connected to REF INA,REF INB.", 3 REF INB (in) "Voltage Reference Input for DAC B.The reference voltage for DAC B is applied to this pin.It is internally buffered before being applied to the DAC.The nominal reference voltage for correct operation of the AD7237 is 5 V.", 4 ROFSB (in) "Output Offset Resistor for DAC B.This input configures the output ranges for DAC B.It is connected to VOUTB for the + 5 V range,to AGND for the + 10 V range and to REF INB for the +/- 5 V range.", 5 VOUTB (out) "Analog Output Voltage from DAC B.This is the buffer amplifier output voltage.Three different output voltage ranges can be chosen:0 to + 5 V,0 to + 10 V and +/- 5 V.The amplifier is capable of developing + 10 V across a 2 (See Datasheet)", 6 AGND (power) "Analog Ground.Ground reference for DACs,reference and output buffer amplifiers.", 7 DB7 (in) "Data Bit 7.", 8 DB6 (in) "Data bit 6.", 9 DB5 (in) "Data Bit 5.", 10 DB4 (in) "Data Bit 4.", 11 DB3 (in) "Data Bit 3/Data Bit 11 (MSB).", 12 DGND (power) "Digital Ground.Ground reference for digital circuitry.", 13 DB2 (in) "Data Bit 2/Data Bit 10.", 14 DB1 (in) "Data Bit 1/Data Bit 9.", 15 DB0 (in) "Data Bit 0 (LSB)/Data Bit 8.", 16 A0 (in) "Address Input.Least significant address input for input latches.A0 and A1 select which of the four input latches data is written to (see Table II)", 17 A1 (in) "Address Input.Most significant address input for input latches.", 18 ~{CS} (in) "Chip Select.Active low logic input.The device is selected when this input is active.", 19 ~{WR} (in) "Write Input.W\R\ is an active low logic input which is used in conjunction with C\S\,A0 and A1 to write data to the input latches.", 20 ~{LDAC} (in) "Load DAC.Logic input.A new word is loaded into the DAC latches from the respective input latches on the falling edge of this signal.", 21 VDD (power) "Positive Supply,+ 15 V.", 22 VOUTA (out) "Analog Output Voltage from DAC A.This is the buffer amplifier output voltage.Three different output voltage ranges can be chosen:0 to + 5 V,0 to + 10 V and +/- 5 V.The amplifier is capable of developing + 10 V across a 2 (See Datasheet)", 23 VSS (power) "Negative Supply,- 15 V.", 24 ROFSA (in) "Output Offset Resistor for DAC A.This input configures the output ranges for DAC A.It is connected to VOUTA for the + 5 V range,to AGND for the + 10 V range and to REF INB for the +/- 5 V range."

## AD7237AAR
designator U?
Dual 12-Bit LC2MOS DACPORT, -40 to +85 degC, RW-24, Tube; Generic Part Number: AD7237A; Manufacturer: Analog Devices; PartNumber: AD7237AAR; # DAC Outputs: 2; Max V+: 16.5V; Op Pwr Diss: 300mW; Resolution (Bits): 12; Settling Time: 8µs; Single Supply: Yes; DatasheetVersion: Rev.A; PackageVersion: 060706-A; PackageReference: RW-24; PackageDescription: 24-Lead Standard Small Outline Package [SOIC_W]; Supplier 1: Digi-Key; Supplier Part Number 1: AD7237AAR-ND; Supplier 2: Mouser; Supplier Part Number 2: 584-AD7237AAR; Packing: Tube; RoHS: N; Mounting Technology: Surface Mount; Code_JEDEC: MS-013-AD; ComponentLink1Description: Manufacturer URL; ComponentLink1URL: http://www.analog.com/en/index.html; ComponentLink2Description: Datasheet; ComponentLink2URL: http://www.analog.com/static/imported-files/data_sheets/AD7237_7247.pdf; ComponentLink3Description: Package Specification; ComponentLink3URL: http://www.analog.com/static/imported-files/packages/33665150946139RW_24.pdf; ComponentLink4Description: Product URL; ComponentLink4URL: http://www.analog.com/en/digital-to-analog-converters/da-converters/ad7237/products/product.html
footprint RW-24_N (SOIC, 24-Leads, Body 15.4x7.5mm, Pitch 1.27mm, IPC Medium Density)
footprint RW-24_L (SOIC, 24-Leads, Body 15.4x7.5mm, Pitch 1.27mm, IPC High Density)
footprint RW-24_M (SOIC, 24-Leads, Body 15.4x7.5mm, Pitch 1.27mm, IPC Low Density)
pins: 1 REF INA (in) "Voltage Reference Input for DAC A. The reference voltage for DAC A is applied to this pin. It is internally buffered before being applied to the DAC. The nominal reference voltage for correct operation of the AD7237A is 5 V.", 2 REF OUT (out) "Voltage Reference Output. The internal 5 V analog reference is provided at this pin. To operate the part with internal reference, REF OUT should be connected to REF INA, REF INB.", 3 REF INB (in) "Voltage Reference Input for DAC B. The reference voltage for DAC B is applied to this pin. It is internally buffered before being applied to the DAC. The nominal reference voltage for correct operation of the AD7237A is 5 V.", 4 ROFSB (in) "Output Offset Resistor for DAC B. This input configures the output ranges for DAC B. It is connected to VOUTB for the +5 V range, to AGND for the +10 V range and to REF INB for the +/-5 V range.", 5 VOUTB (out) "Analog Output Voltage from DAC B. This is the buffer amplifier output voltage. Three different output voltage ranges can be chosen: 0 V to +5 V, 0 V to +10 V and +/-5 V. The amplifier is capable of developing +10 V across a (See Datasheet)", 6 AGND (power) "Analog Ground. Ground reference for DACs, reference and output buffer amplifiers.", 7 DB7 (in) "Data Bit 7.", 8 DB6 (in) "Data Bit 6.", 9 DB5 (in) "Data Bit 5.", 10 DB4 (in) "Data Bit 4.", 11 DB3 (in) "Data Bit 3", 12 DGND (power) "Digital Ground. Ground reference for digital circuitry.", 13 DB2 (in) "Data Bit 2", 14 DB1 (in) "Data Bit 1", 15 DB0 (in) "Data Bit 0 (LSB)", 16 A0 (in) "Address Input. Least significant address input for input latches. A0 and A1 select which of the four input latches data is written to", 17 A1 (in) "Address Input. Most significant address input for input latches.", 18 ~{CS} (in) "Chip Select. Active low logic input. The device is selected when this input is active.", 19 ~{WR} (in) "Write Input. W\R\ is an active low logic input which is used in conjunction with C\S\, A0 and A1 to write data to the input latches.", 20 ~{LDAC} (in) "Load DAC. Logic input. A new word is loaded into the DAC latches from the respective input latches on the falling edge of this signal.", 21 VDD (power) "Positive Supply ,+15 V.", 22 VOUTA (out) "Analog Output Voltage from DAC A. This is the buffer amplifier output voltage. Three different output voltage ranges can be chosen: 0 V to +5 V, 0 V to +10 V and +/-5 V. The amplifier is capable of developing +10 V across a (See Datasheet)", 23 VSS (power) "Negative Supply ,-15 V.", 24 ROFSA (in) "Output Offset Resistor for DAC A. This input configures the output ranges for DAC A. It is connected to VOUTA for the +5 V range, to AGND for the +10 V range and to REF INA for the +/-5 V range."

## AD7237AAR-REEL7
designator U?
Dual 12-Bit LC2MOS DACPORT, -40 to +85 degC, RW-24, Reel; Generic Part Number: AD7237A; Manufacturer: Analog Devices; PartNumber: AD7237AAR-REEL7; # DAC Outputs: 2; Max V+: 16.5V; Op Pwr Diss: 300mW; Resolution (Bits): 12; Settling Time: 8µs; Single Supply: Yes; DatasheetVersion: Rev.A; PackageVersion: 060706-A; PackageReference: RW-24; PackageDescription: 24-Lead Standard Small Outline Package [SOIC_W]; Supplier 1: Digi-Key; Supplier Part Number 1: AD7237AAR-REEL7-ND; Supplier 2: Newark; Supplier Part Number 2: 09B5586; Supplier 3: Mouser; Supplier Part Number 3: 584-AD7237AAR-R7; Packing: Reel; RoHS: N; Mounting Technology: Surface Mount; Code_JEDEC: MS-013-AD; ComponentLink1Description: Manufacturer URL; ComponentLink1URL: http://www.analog.com/en/index.html; ComponentLink2Description: Datasheet; ComponentLink2URL: http://www.analog.com/static/imported-files/data_sheets/AD7237_7247.pdf; ComponentLink3Description: Package Specification; ComponentLink3URL: http://www.analog.com/static/imported-files/packages/33665150946139RW_24.pdf; ComponentLink4Description: Product URL; ComponentLink4URL: http://www.analog.com/en/digital-to-analog-converters/da-converters/ad7237/products/product.html
footprint RW-24_N (SOIC, 24-Leads, Body 15.4x7.5mm, Pitch 1.27mm, IPC Medium Density)
footprint RW-24_L (SOIC, 24-Leads, Body 15.4x7.5mm, Pitch 1.27mm, IPC High Density)
footprint RW-24_M (SOIC, 24-Leads, Body 15.4x7.5mm, Pitch 1.27mm, IPC Low Density)
pins: 1 REF INA (in) "Voltage Reference Input for DAC A. The reference voltage for DAC A is applied to this pin. It is internally buffered before being applied to the DAC. The nominal reference voltage for correct operation of the AD7237A is 5 V.", 2 REF OUT (out) "Voltage Reference Output. The internal 5 V analog reference is provided at this pin. To operate the part with internal reference, REF OUT should be connected to REF INA, REF INB.", 3 REF INB (in) "Voltage Reference Input for DAC B. The reference voltage for DAC B is applied to this pin. It is internally buffered before being applied to the DAC. The nominal reference voltage for correct operation of the AD7237A is 5 V.", 4 ROFSB (in) "Output Offset Resistor for DAC B. This input configures the output ranges for DAC B. It is connected to VOUTB for the +5 V range, to AGND for the +10 V range and to REF INB for the +/-5 V range.", 5 VOUTB (out) "Analog Output Voltage from DAC B. This is the buffer amplifier output voltage. Three different output voltage ranges can be chosen: 0 V to +5 V, 0 V to +10 V and +/-5 V. The amplifier is capable of developing +10 V across a (See Datasheet)", 6 AGND (power) "Analog Ground. Ground reference for DACs, reference and output buffer amplifiers.", 7 DB7 (in) "Data Bit 7.", 8 DB6 (in) "Data Bit 6.", 9 DB5 (in) "Data Bit 5.", 10 DB4 (in) "Data Bit 4.", 11 DB3 (in) "Data Bit 3", 12 DGND (power) "Digital Ground. Ground reference for digital circuitry.", 13 DB2 (in) "Data Bit 2", 14 DB1 (in) "Data Bit 1", 15 DB0 (in) "Data Bit 0 (LSB)", 16 A0 (in) "Address Input. Least significant address input for input latches. A0 and A1 select which of the four input latches data is written to", 17 A1 (in) "Address Input. Most significant address input for input latches.", 18 ~{CS} (in) "Chip Select. Active low logic input. The device is selected when this input is active.", 19 ~{WR} (in) "Write Input. W\R\ is an active low logic input which is used in conjunction with C\S\, A0 and A1 to write data to the input latches.", 20 ~{LDAC} (in) "Load DAC. Logic input. A new word is loaded into the DAC latches from the respective input latches on the falling edge of this signal.", 21 VDD (power) "Positive Supply ,+15 V.", 22 VOUTA (out) "Analog Output Voltage from DAC A. This is the buffer amplifier output voltage. Three different output voltage ranges can be chosen: 0 V to +5 V, 0 V to +10 V and +/-5 V. The amplifier is capable of developing +10 V across a (See Datasheet)", 23 VSS (power) "Negative Supply ,-15 V.", 24 ROFSA (in) "Output Offset Resistor for DAC A. This input configures the output ranges for DAC A. It is connected to VOUTA for the +5 V range, to AGND for the +10 V range and to REF INA for the +/-5 V range."

## AD7237AARZ
designator U?
Dual 12-Bit LC2MOS DACPORT, -40 to +85 degC, RW-24, Pb-Free, Tube; Generic Part Number: AD7237A; Manufacturer: Analog Devices; PartNumber: AD7237AARZ; # DAC Outputs: 2; Max V+: 16.5V; Op Pwr Diss: 300mW; Resolution (Bits): 12; Settling Time: 8µs; Single Supply: Yes; DatasheetVersion: Rev.A; PackageVersion: 060706-A; PackageReference: RW-24; PackageDescription: 24-Lead Standard Small Outline Package [SOIC_W]; Supplier 1: Digi-Key; Supplier Part Number 1: AD7237AARZ-ND; Supplier 2: Newark; Supplier Part Number 2: 59K4595; Supplier 3: Mouser; Supplier Part Number 3: 584-AD7237AARZ; Packing: Tube; RoHS: Y; Mounting Technology: Surface Mount; Code_JEDEC: MS-013-AD; ComponentLink1Description: Manufacturer URL; ComponentLink1URL: http://www.analog.com/en/index.html; ComponentLink2Description: Datasheet; ComponentLink2URL: http://www.analog.com/static/imported-files/data_sheets/AD7237_7247.pdf; ComponentLink3Description: Package Specification; ComponentLink3URL: http://www.analog.com/static/imported-files/packages/33665150946139RW_24.pdf; ComponentLink4Description: Product URL; ComponentLink4URL: http://www.analog.com/en/digital-to-analog-converters/da-converters/ad7237/products/product.html
footprint RW-24_N (SOIC, 24-Leads, Body 15.4x7.5mm, Pitch 1.27mm, IPC Medium Density)
footprint RW-24_L (SOIC, 24-Leads, Body 15.4x7.5mm, Pitch 1.27mm, IPC High Density)
footprint RW-24_M (SOIC, 24-Leads, Body 15.4x7.5mm, Pitch 1.27mm, IPC Low Density)
pins: 1 REF INA (in) "Voltage Reference Input for DAC A. The reference voltage for DAC A is applied to this pin. It is internally buffered before being applied to the DAC. The nominal reference voltage for correct operation of the AD7237A is 5 V.", 2 REF OUT (out) "Voltage Reference Output. The internal 5 V analog reference is provided at this pin. To operate the part with internal reference, REF OUT should be connected to REF INA, REF INB.", 3 REF INB (in) "Voltage Reference Input for DAC B. The reference voltage for DAC B is applied to this pin. It is internally buffered before being applied to the DAC. The nominal reference voltage for correct operation of the AD7237A is 5 V.", 4 ROFSB (in) "Output Offset Resistor for DAC B. This input configures the output ranges for DAC B. It is connected to VOUTB for the +5 V range, to AGND for the +10 V range and to REF INB for the +/-5 V range.", 5 VOUTB (out) "Analog Output Voltage from DAC B. This is the buffer amplifier output voltage. Three different output voltage ranges can be chosen: 0 V to +5 V, 0 V to +10 V and +/-5 V. The amplifier is capable of developing +10 V across a (See Datasheet)", 6 AGND (power) "Analog Ground. Ground reference for DACs, reference and output buffer amplifiers.", 7 DB7 (in) "Data Bit 7.", 8 DB6 (in) "Data Bit 6.", 9 DB5 (in) "Data Bit 5.", 10 DB4 (in) "Data Bit 4.", 11 DB3 (in) "Data Bit 3", 12 DGND (power) "Digital Ground. Ground reference for digital circuitry.", 13 DB2 (in) "Data Bit 2", 14 DB1 (in) "Data Bit 1", 15 DB0 (in) "Data Bit 0 (LSB)", 16 A0 (in) "Address Input. Least significant address input for input latches. A0 and A1 select which of the four input latches data is written to", 17 A1 (in) "Address Input. Most significant address input for input latches.", 18 ~{CS} (in) "Chip Select. Active low logic input. The device is selected when this input is active.", 19 ~{WR} (in) "Write Input. W\R\ is an active low logic input which is used in conjunction with C\S\, A0 and A1 to write data to the input latches.", 20 ~{LDAC} (in) "Load DAC. Logic input. A new word is loaded into the DAC latches from the respective input latches on the falling edge of this signal.", 21 VDD (power) "Positive Supply ,+15 V.", 22 VOUTA (out) "Analog Output Voltage from DAC A. This is the buffer amplifier output voltage. Three different output voltage ranges can be chosen: 0 V to +5 V, 0 V to +10 V and +/-5 V. The amplifier is capable of developing +10 V across a (See Datasheet)", 23 VSS (power) "Negative Supply ,-15 V.", 24 ROFSA (in) "Output Offset Resistor for DAC A. This input configures the output ranges for DAC A. It is connected to VOUTA for the +5 V range, to AGND for the +10 V range and to REF INA for the +/-5 V range."

## AD7237AARZ-REEL
designator U?
Dual 12-Bit LC2MOS DACPORT, -40 to +85 degC, RW-24, Pb-Free, Reel; Generic Part Number: AD7237A; Manufacturer: Analog Devices; PartNumber: AD7237AARZ-REEL; # DAC Outputs: 2; Max V+: 16.5V; Op Pwr Diss: 300mW; Resolution (Bits): 12; Settling Time: 8µs; Single Supply: Yes; DatasheetVersion: Rev.A; PackageVersion: 060706-A; PackageReference: RW-24; PackageDescription: 24-Lead Standard Small Outline Package [SOIC_W]; Supplier 1: Digi-Key; Supplier Part Number 1: AD7237AARZ-REEL-ND; Supplier 2: Mouser; Supplier Part Number 2: 584-AD7237AARZ-R; Packing: Reel; RoHS: Y; Mounting Technology: Surface Mount; Code_JEDEC: MS-013-AD; ComponentLink1Description: Manufacturer URL; ComponentLink1URL: http://www.analog.com/en/index.html; ComponentLink2Description: Datasheet; ComponentLink2URL: http://www.analog.com/static/imported-files/data_sheets/AD7237_7247.pdf; ComponentLink3Description: Package Specification; ComponentLink3URL: http://www.analog.com/static/imported-files/packages/33665150946139RW_24.pdf; ComponentLink4Description: Product URL; ComponentLink4URL: http://www.analog.com/en/digital-to-analog-converters/da-converters/ad7237/products/product.html
footprint RW-24_N (SOIC, 24-Leads, Body 15.4x7.5mm, Pitch 1.27mm, IPC Medium Density)
footprint RW-24_L (SOIC, 24-Leads, Body 15.4x7.5mm, Pitch 1.27mm, IPC High Density)
footprint RW-24_M (SOIC, 24-Leads, Body 15.4x7.5mm, Pitch 1.27mm, IPC Low Density)
pins: 1 REF INA (in) "Voltage Reference Input for DAC A. The reference voltage for DAC A is applied to this pin. It is internally buffered before being applied to the DAC. The nominal reference voltage for correct operation of the AD7237A is 5 V.", 2 REF OUT (out) "Voltage Reference Output. The internal 5 V analog reference is provided at this pin. To operate the part with internal reference, REF OUT should be connected to REF INA, REF INB.", 3 REF INB (in) "Voltage Reference Input for DAC B. The reference voltage for DAC B is applied to this pin. It is internally buffered before being applied to the DAC. The nominal reference voltage for correct operation of the AD7237A is 5 V.", 4 ROFSB (in) "Output Offset Resistor for DAC B. This input configures the output ranges for DAC B. It is connected to VOUTB for the +5 V range, to AGND for the +10 V range and to REF INB for the +/-5 V range.", 5 VOUTB (out) "Analog Output Voltage from DAC B. This is the buffer amplifier output voltage. Three different output voltage ranges can be chosen: 0 V to +5 V, 0 V to +10 V and +/-5 V. The amplifier is capable of developing +10 V across a (See Datasheet)", 6 AGND (power) "Analog Ground. Ground reference for DACs, reference and output buffer amplifiers.", 7 DB7 (in) "Data Bit 7.", 8 DB6 (in) "Data Bit 6.", 9 DB5 (in) "Data Bit 5.", 10 DB4 (in) "Data Bit 4.", 11 DB3 (in) "Data Bit 3", 12 DGND (power) "Digital Ground. Ground reference for digital circuitry.", 13 DB2 (in) "Data Bit 2", 14 DB1 (in) "Data Bit 1", 15 DB0 (in) "Data Bit 0 (LSB)", 16 A0 (in) "Address Input. Least significant address input for input latches. A0 and A1 select which of the four input latches data is written to", 17 A1 (in) "Address Input. Most significant address input for input latches.", 18 ~{CS} (in) "Chip Select. Active low logic input. The device is selected when this input is active.", 19 ~{WR} (in) "Write Input. W\R\ is an active low logic input which is used in conjunction with C\S\, A0 and A1 to write data to the input latches.", 20 ~{LDAC} (in) "Load DAC. Logic input. A new word is loaded into the DAC latches from the respective input latches on the falling edge of this signal.", 21 VDD (power) "Positive Supply ,+15 V.", 22 VOUTA (out) "Analog Output Voltage from DAC A. This is the buffer amplifier output voltage. Three different output voltage ranges can be chosen: 0 V to +5 V, 0 V to +10 V and +/-5 V. The amplifier is capable of developing +10 V across a (See Datasheet)", 23 VSS (power) "Negative Supply ,-15 V.", 24 ROFSA (in) "Output Offset Resistor for DAC A. This input configures the output ranges for DAC A. It is connected to VOUTA for the +5 V range, to AGND for the +10 V range and to REF INA for the +/-5 V range."